# Altium schematic symbol library CoffeeScale.SchLib: 28 symbols
Pins are listed as number, name and electrical type; pins without a type are passive.

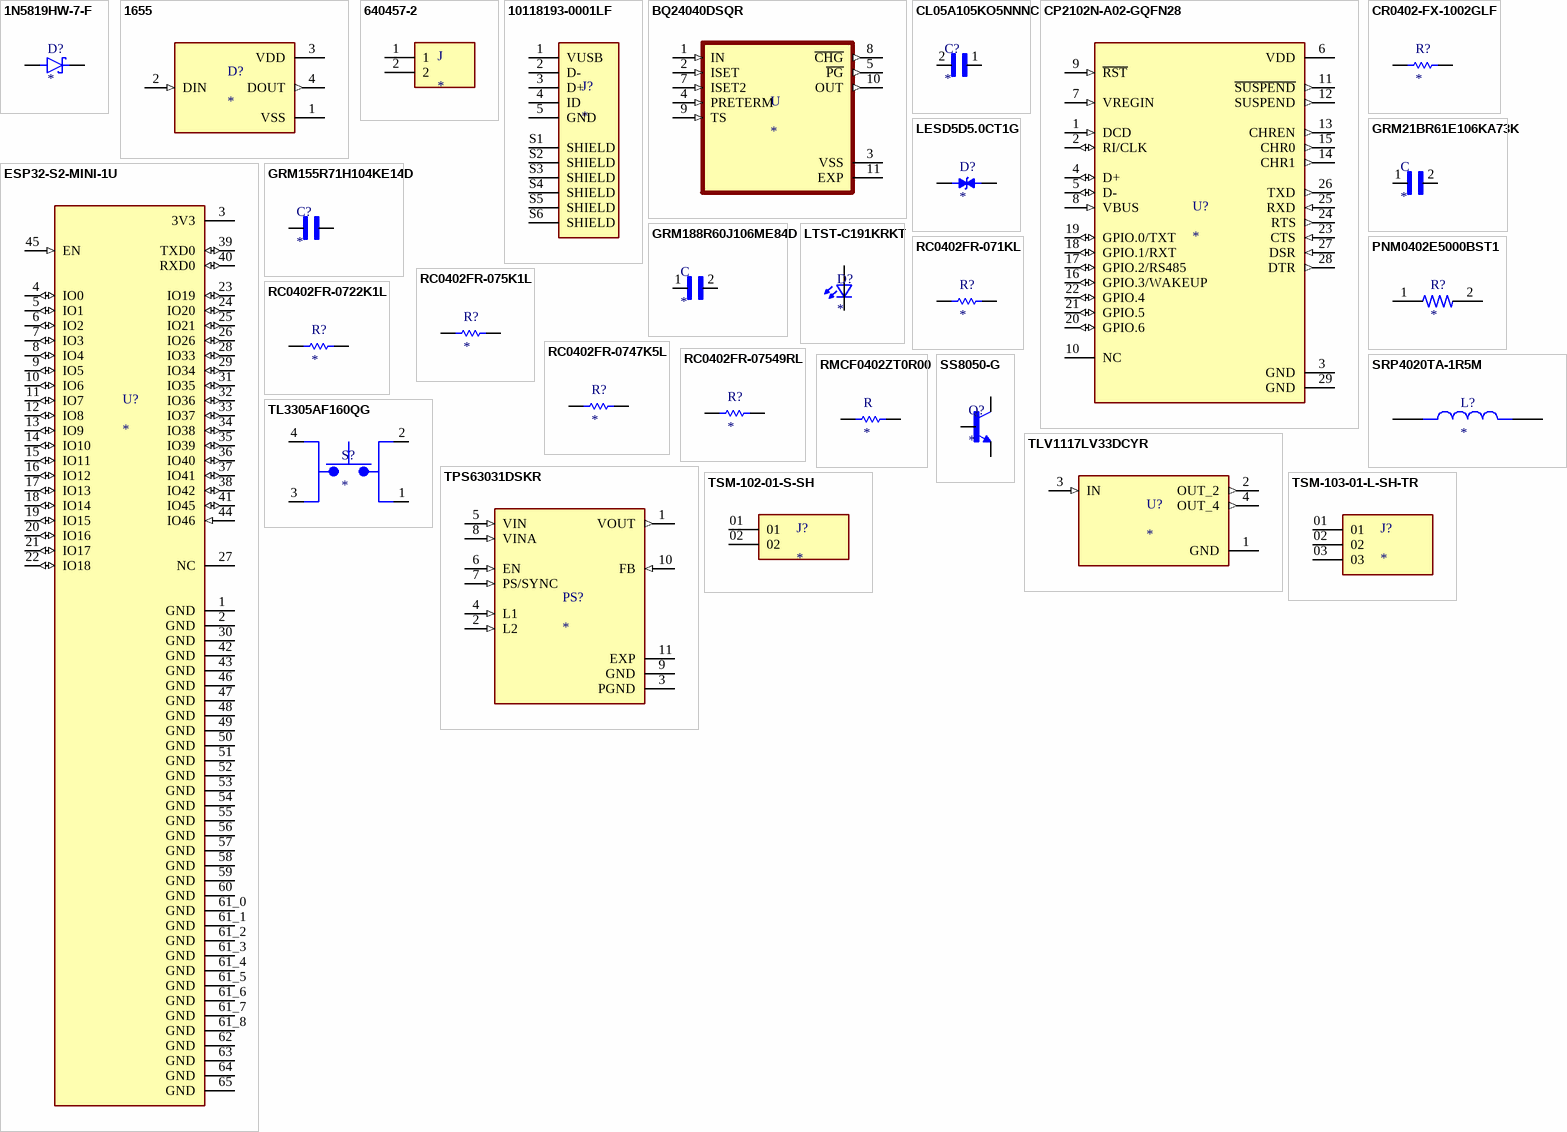
[diagram p0: symbols 1N5819HW-7-F to TSM-103-01-L-SH-TR]

## 1N5819HW-7-F
designator D?
Diode Schottky 40 V 1A Surface Mount SOD-123; MF: Diodes Inc.; MP: 1N5819HW-7-F; Value: *; SnapEDA_Link: https://www.snapeda.com/parts/1N5819HW-7-F/Diodes+Inc./view-part/?ref=snap; Purchase-URL: https://pricing.snapeda.com/search/part/1N5819HW-7-F/?ref=eda; Availability: In Stock; Price: None; Package: SOD-123 Fairchild Semiconductor; Check_prices: https://www.snapeda.com/parts/1N5819HW-7-F/Diodes+Inc./view-part/?ref=eda
footprint SOD3715X145N
pins: A, C K

## 1655
designator D?
Ws2812b 5050 Rgb Led With Integrated Driver Chip Pack Of 10; MP: 1655; Package: None; Price: None; Availability: Unavailable; Value: *
footprint LED_1655
pins: 1 VSS (power), 2 DIN (in), 3 VDD (power), 4 DOUT (out)

## 640457-2
designator J
Header, Friction Lock; MTA-100; 2; 250 VAC; Polyester; Tin; Copper Alloy; Tin; Product_Type: Connector; Number_of_Positions: 2; MP: 640457-2; MF: TE Connectivity; Centerline_Pitch: 2.54 mm[.1 in]; Package: None; Digi-Key_Purchase_URL: https://www.digikey.com/product-detail/en/te-connectivity-amp-connectors/640457-2/A1926-ND/109016?utm_source=snapeda&utm_medium=aggregator&utm_campaign=symbol; Digi-Key_Part_Number: A1926-ND; SnapEDA_Link: https://www.snapeda.com/parts/640457-2/TE%20Connectivity%20AMP%20Connectors/view-part/532921/?ref=snap; EU_RoHS_Compliance: Compliant; TE_purchase_URL: https://www.te.com/usa-en/product-640457-2.html?te_bu=Cor&te_type=disp&te_campaign=seda_glo_cor-seda-global-disp-prtnr-fy19-seda-model-bom-cta_sma-317_1&elqCampaignId=32493; Value: *
footprint TE_640457-2
pins: 1, 2

## 10118193-0001LF
designator J?
Micro USB 2.0, Input Output Connectors, B TYPE RECEPTACLE; MP: 10118193-0001LF; MF: Amphenol ICC; Value: *; Package: None; Check_prices: https://www.snapeda.com/parts/10118193-0001LF/Amphenol+FCI/view-part/?ref=eda; Purchase-URL: https://pricing.snapeda.com/search/part/10118193-0001LF/?ref=eda; Price: None; Availability: In Stock; SnapEDA_Link: https://www.snapeda.com/parts/10118193-0001LF/Amphenol+FCI/view-part/?ref=snap
footprint AMPHENOL_10118193-0001LF
pins: 1 VUSB, 2 D-, 3 D+, 4 ID, 5 GND, S1 SHIELD, S2 SHIELD, S3 SHIELD, S4 SHIELD, S5 SHIELD, S6 SHIELD

## BQ24040DSQR
designator U
Standalone 1-cell 1-A linear battery charger with 4.2-V VBAT and Temperature Sensing 10-WSON 0 to 125; MF: Texas Instruments; MP: BQ24040DSQR; SnapEDA_Link: https://www.snapeda.com/parts/BQ24040DSQR/Texas%20Instruments/view-part/229310/?ref=snap; Mouser-Purchase-URL: https://snapeda.com/shop?store=Mouser&id=229310; Digi-Key_Part_Number: 296-37142-1-ND; DigiKey-Purchase-URL: https://snapeda.com/shop?store=DigiKey&id=229310; Value: *; Texas_Instruments-Purchase-URL: https://snapeda.com/shop?store=Texas+Instruments&id=229310; Package: WSON-10 Texas Instruments
footprint SON40P200X200X80-11N
pins: 1 IN (in), 2 ISET (in), 3 VSS (power), 4 PRETERM (in), 5 ~{PG} (out), 7 ISET2 (in), 8 ~{CHG} (out), 9 TS (in), 10 OUT (out), 11 EXP (power)

## CL05A105KO5NNNC
designator C?
1ÂµF Â±10% 16V Ceramic Capacitor X5R 0402 (1005 Metric); MP: CL05A105KO5NNNC; MF: Samsung Electro-Mechanics; Purchase-URL: https://pricing.snapeda.com/search/part/CL05A105KO5NNNC/?ref=eda; SnapEDA_Link: https://www.snapeda.com/parts/CL05A105KO5NNNC/Samsung%20Electro-Mechanics/view-part/3598151/?ref=snap; Availability: Good; Price: None; Check_prices: https://www.snapeda.com/parts/CL05A105KO5NNNC/Samsung%20Electro-Mechanics/view-part/3598151/?ref=eda; Package: 0402 Samsung; Value: *
footprint CAPC1005X55N
pins: 1, 2

## CP2102N-A02-GQFN28
designator U?
USB Bridge, USB to UART USB 2.0 UART Interface 28-QFN (5x5); MF: Silicon Labs; MP: CP2102N-A02-GQFN28; Value: *; Price: None; Package: WFQFN-28 Silicon Labs; Check_prices: https://www.snapeda.com/parts/CP2102N-A02-GQFN28/Silicon+Labs/view-part/?ref=eda; Availability: In Stock; SnapEDA_Link: https://www.snapeda.com/parts/CP2102N-A02-GQFN28/Silicon+Labs/view-part/?ref=snap; Purchase-URL: https://pricing.snapeda.com/search/part/CP2102N-A02-GQFN28/?ref=eda
footprint QFN50P500X500X80-29N
pins: 1 DCD (in), 2 RI/CLK (io), 3 GND (power), 4 D+ (io), 5 D- (io), 6 VDD (power), 7 VREGIN (in), 8 VBUS (in), 9 ~{RST} (in), 10 NC, 11 ~{SUSPEND} (out), 12 SUSPEND (out), 13 CHREN (out), 14 CHR1 (out), 15 CHR0 (out), 16 GPIO.3/WAKEUP (io), 17 GPIO.2/RS485 (io), 18 GPIO.1/RXT (io), 19 GPIO.0/TXT (io), 20 GPIO.6 (io), 21 GPIO.5 (io), 22 GPIO.4 (io), 23 CTS (in), 24 RTS (out), 25 RXD (in), 26 TXD (out), 27 DSR (in), 28 DTR (out), 29 GND (power)

## CR0402-FX-1002GLF
designator R?
Res Thick Film 0402 10K Ohm 1% 1/16W Â±100ppm/Â°C Molded SMD SMD Paper Tape on Plastic Reel; MP: CR0402-FX-1002GLF; Package: None; Price: None; Value: *; Availability: Unavailable
footprint RESC1005X40N
pins: 1, 2

## ESP32-S2-MINI-1U
designator U?
WiFi 802.11b/g/n Transceiver Module 2.412GHz ~ 2.484GHz Antenna Not Included Surface Mount; MP: ESP32-S2-MINI-1U; MF: Espressif Systems; Price: None; SnapEDA_Link: https://www.snapeda.com/parts/ESP32-S2-MINI-1U/Espressif+Systems/view-part/?ref=snap; Check_prices: https://www.snapeda.com/parts/ESP32-S2-MINI-1U/Espressif+Systems/view-part/?ref=eda; Availability: In Stock; Value: *; Purchase-URL: https://pricing.snapeda.com/search/part/ESP32-S2-MINI-1U/?ref=eda; Package: VFQFN-56 Espressif Systems
footprint XCVR_ESP32-S2-MINI-1U
pins: 1 GND (power), 2 GND (power), 3 3V3 (power), 4 IO0 (io), 5 IO1 (io), 6 IO2 (io), 7 IO3 (io), 8 IO4 (io), 9 IO5 (io), 10 IO6 (io), 11 IO7 (io), 12 IO8 (io), 13 IO9 (io), 14 IO10 (io), 15 IO11 (io), 16 IO12 (io), 17 IO13 (io), 18 IO14 (io), 19 IO15 (io), 20 IO16 (io), 21 IO17 (io), 22 IO18 (io), 23 IO19 (io), 24 IO20 (io), 25 IO21 (io), 26 IO26 (io), 27 NC, 28 IO33 (io), 29 IO34 (io), 30 GND (power), 31 IO35 (io), 32 IO36 (io), 33 IO37 (io), 34 IO38 (io), 35 IO39 (io), 36 IO40 (io), 37 IO41 (io), 38 IO42 (io), 39 TXD0 (io), 40 RXD0 (io), 41 IO45 (io), 42 GND (power), 43 GND (power), 44 IO46 (in), 45 EN (in), 46 GND (power), 47 GND (power), 48 GND (power), 49 GND (power), 50 GND (power), 51 GND (power), 52 GND (power), 53 GND (power), 54 GND (power), 55 GND (power), 56 GND (power), 57 GND (power), 58 GND (power), 59 GND (power), 60 GND (power), 61_0 GND (power), 61_1 GND (power), 61_2 GND (power), 61_3 GND (power), 61_4 GND (power), 61_5 GND (power), 61_6 GND (power), 61_7 GND (power), 61_8 GND (power), 62 GND (power), 63 GND (power), 64 GND (power), 65 GND (power)

## GRM21BR61E106KA73K
designator C
SMD Capacitor X5R_EIA_ with Capacitance: 10uF Tol. 10%. Rated Voltage: 25Vdc; MP: GRM21BR61E106KA73K; MF: Murata; Value: *; Digi-Key_Purchase_URL: https://www.digikey.com/product-detail/en/murata-electronics/GRM21BR61E106KA73K/490-16824-1-ND/7595732?utm_source=snapeda&utm_medium=aggregator&utm_campaign=symbol; Package: 2012 Murata; Digi-Key_Part_Number: 490-16824-1-ND; SnapEDA_Link: https://www.snapeda.com/parts/GRM21BR61E106KA73K/Murata/view-part/4375513/?ref=snap
footprint CAPC2012X140N
pins: 1, 2

## GRM155R71H104KE14D
designator C?
SMD capacitor X7R(EIA) with capacitance 0.10uF Tol.10%. Rated voltage 50Vdc 125C; MF: Murata Electronics; MP: GRM155R71H104KE14D; SnapEDA_Link: https://www.snapeda.com/parts/GRM155R71H104KE14D/Murata+Electronics+North+America/view-part/?ref=snap; Package: 1005 Taiyo Yuden; Value: *; Check_prices: https://www.snapeda.com/parts/GRM155R71H104KE14D/Murata+Electronics+North+America/view-part/?ref=eda
footprint CAPC1005X55N
pins: 1, 2

## GRM188R60J106ME84D
designator C
SMD Capacitor X5R(EIA) with Capacitance: 10uF Tol. 20%. Rated Voltage: 6.3Vdc; MF: Murata; MP: GRM188R60J106ME84D; Value: *; Availability: Unavailable; Price: None; SnapEDA_Link: https://www.snapeda.com/parts/GRM188R60J106ME84D/Murata%20Electronics%20North%20America/view-part/423309/?ref=snap; DigiKey-Purchase-URL: https://snapeda.com/shop?store=DigiKey&id=423309; Package: 1608 Murata
footprint CAPC1608X90N
pins: 1, 2

## LESD5D5.0CT1G
designator D?
Transient Voltage Suppressors for ESD Protection; MF: Leshan Radio Co.; MP: LESD5D5.0CT1G; Check_prices: https://www.snapeda.com/parts/LESD5D5.0CT1G/Leshan+Radio+Co./view-part/?ref=eda; Value: *; Availability: Not in stock; Package: None; SnapEDA_Link: https://www.snapeda.com/parts/LESD5D5.0CT1G/Leshan+Radio+Co./view-part/?ref=snap; Price: None
footprint TVS_LESD5D5.0CT1G
pins: 1, 2

## LTST-C191KRKT
designator D?
RED LED 0603 / http://octopart.com/ltst-c190krkt-lite-on-549893; MP: LTST-C191KRKT; Package: None; Value: *; Availability: Unavailable; Price: None
footprint 0603
pins: 1 K2, 2 A2

## PNM0402E5000BST1
designator R?
500 OHM .1% 25PPM; MP: PNM0402E5000BST1; Package: None; Price: None; Value: *; Availability: Unavailable
footprint RESC1005X40
pins: 1, 2

## RC0402FR-071KL
designator R?
1 kOhms Â±1% 0.063W, 1/16W Chip Resistor 0402 (1005 Metric) Moisture Resistant Thick Film; MF: Yageo; MP: RC0402FR-071KL; SnapEDA_Link: https://www.snapeda.com/parts/RC0402FR-071KL/Yageo/view-part/?ref=snap; Package: 1005 Panasonic Electronic Components; Value: *; Check_prices: https://www.snapeda.com/parts/RC0402FR-071KL/Yageo/view-part/?ref=eda
footprint RESC1005X40N
pins: 1, 2

## RC0402FR-075K1L
designator R?
Res Thick Film 1.0 x 0.5 mm 5.1K Ohm 1% 0.063W(1/16W) 100ppm/ C Molded SMD Paper T/R <a href="https://pricing.snapeda.com/parts/RC0402FR-075K1L/Yageo/view-part?ref=eda">Check availability</a>; MF: {'manufacturer': u'YAGEO'}; Package: None; Price: None; Value: *; MP: RC0402FR-075K1L; Availability: Unavailable
footprint RESC1005X40N
pins: 1, 2

## RC0402FR-0722K1L
designator R?
THICK FILM RESISTOR, 22.1KOHM 62.5mW 1%; MP: RC0402FR-0722K1L; Package: None; Price: None; Value: *; Availability: Unavailable
footprint RESC1005X40N
pins: 1, 2

## RC0402FR-0747K5L
designator R?
Res Thick Film 0402 47.5K Ohm 1% 0.063W(1/16W) ??100ppm/??C Epoxy SMD T/R; MP: RC0402FR-0747K5L; Package: None; Price: None; Value: *; Availability: Unavailable
footprint RESC1005X40N
pins: 1, 2

## RC0402FR-07549RL
designator R?
RC0402 549R 1% 0,063W; MP: RC0402FR-07549RL; Package: None; Price: None; Value: *; Availability: Unavailable
footprint RESC1005X40N
pins: 1, 2

## RMCF0402ZT0R00
designator R
0 Ohms Jumper 0.063W, 1/16W Chip Resistor 0402 _1005 Metric_ Automotive AEC-Q200 Thick Film; MF: Stackpole Electronics; MP: RMCF0402ZT0R00; Value: *; Package: 0402 Stackpole Electronics; SnapEDA_Link: https://www.snapeda.com/parts/RMCF0402ZT0R00/Stackpole%20Electronics%20Inc/view-part/2772568/?ref=snap; Price: None; Availability: Unavailable
footprint RESC1005X40
pins: 1, 2

## SRP4020TA-1R5M
designator L?
1.5 ÂµH Shielded Drum Core, Wirewound Inductor 4.5 A 42mOhm Max 2-SMD; MP: SRP4020TA-1R5M; MF: Bourns; Check_prices: https://www.snapeda.com/parts/SRP4020TA-1R5M/Bourns/view-part/?ref=eda; Package: SMD-2 Bourns; Value: *; Purchase-URL: https://pricing.snapeda.com/search/part/SRP4020TA-1R5M/?ref=eda; SnapEDA_Link: https://www.snapeda.com/parts/SRP4020TA-1R5M/Bourns/view-part/?ref=snap; Availability: In Stock; Price: None
footprint IND_SRP4020TA-1R5M
pins: 1, 2

## SS8050-G
designator Q?
Bipolar (BJT) Transistor NPN 25 V 1.5 A 100MHz 300 mW Surface Mount SOT-23-3; MP: SS8050G; MF: Comchip; Digi-Key_Part_Number: 641-1790-2-ND; Check_prices: https://www.snapeda.com/parts/SS8050G/Comchip/view-part/?ref=eda; Package: None; SnapEDA_Link: https://www.snapeda.com/parts/SS8050G/Comchip/view-part/?ref=snap; Value: *
footprint TRANS_SS8050-G
pins: 1 B, 2 E, 3 C

## TL3305AF160QG
designator S?
Tactile Switch SPST-NO Top Actuated Surface Mount; MF: E-Switch; MP: TL3305AF160QG; Package: None; Check_prices: https://www.snapeda.com/parts/TL3305AF160QG/E-Switch/view-part/?ref=eda; Value: *; Purchase-URL: https://pricing.snapeda.com/search/part/TL3305AF160QG/?ref=eda; Availability: In Stock; SnapEDA_Link: https://www.snapeda.com/parts/TL3305AF160QG/E-Switch/view-part/?ref=snap; Price: None
footprint SW_TL3305AF160QG
pins: 1, 2, 3, 4

## TLV1117LV33DCYR
designator U?
1-A, low-dropout voltage regulator; MP: TLV1117LV33DCYR; MF: Texas Instruments; Check_prices: https://www.snapeda.com/parts/TLV1117LV33DCYR/Texas+Instruments/view-part/?ref=eda; Value: *; Purchase-URL: https://pricing.snapeda.com/search/part/TLV1117LV33DCYR/?ref=eda; SnapEDA_Link: https://www.snapeda.com/parts/TLV1117LV33DCYR/Texas+Instruments/view-part/?ref=snap; Package: SOT-223-4 Texas Instruments; Digi-Key_Part_Number: 296-28778-2-ND
footprint VREG_TLV1117LV33DCYR
pins: 1 GND (power), 2 OUT_2 (out), 3 IN (in), 4 OUT_4 (out)

## TPS63031DSKR
designator PS?
High Efficient Single Inductor Buck-Boost Converter with 1-A Switches; MP: TPS63031DSKR; Availability: Unavailable; Value: *; Package: None; Price: None
footprint SON50P250X250X80-11N
pins: 1 VOUT (out), 2 L2 (in), 3 PGND (power), 4 L1 (in), 5 VIN (in), 6 EN (in), 7 PS/SYNC (in), 8 VINA (in), 9 GND (power), 10 FB (in), 11 EXP

## TSM-102-01-S-SH
designator J?
MF: Samtec; MP: TSM-102-01-S-SH; Package: None; Price: None; Availability: Unavailable; Value: *
footprint SAMTEC_TSM-102-01-S-SH
pins: 01, 02

## TSM-103-01-L-SH-TR
designator J?
Connector Header Surface Mount, Right Angle 3 position 0.100 (2.54mm); MF: Samtec Inc.; MP: TSM-103-01-L-SH-TR; SnapEDA_Link: https://www.snapeda.com/parts/TSM-103-01-L-SH-TR/Samtec%20Inc./view-part/2800636/?ref=snap; Price: None; Purchase-URL: https://pricing.snapeda.com/search/part/TSM-103-01-L-SH-TR/?ref=eda; Check_prices: https://www.snapeda.com/parts/TSM-103-01-L-SH-TR/Samtec%20Inc./view-part/2800636/?ref=eda; Package: None; Availability: Warning; Value: *
footprint SAMTEC_TSM-103-01-L-SH-TR
pins: 01, 02, 03